# Altium footprint library conector coaxial UMCC.PcbLib: 1 footprints
Each footprint in its own frame and in the unit in brackets; x right, y up, seen from the top. Pads: shape width x height; smd on the part's side, far side on the other; paste and mask are expansions set on the pad; w line width, h text height; cw(c..) or ccw(c..) is an arc to the next point about the centre after c.
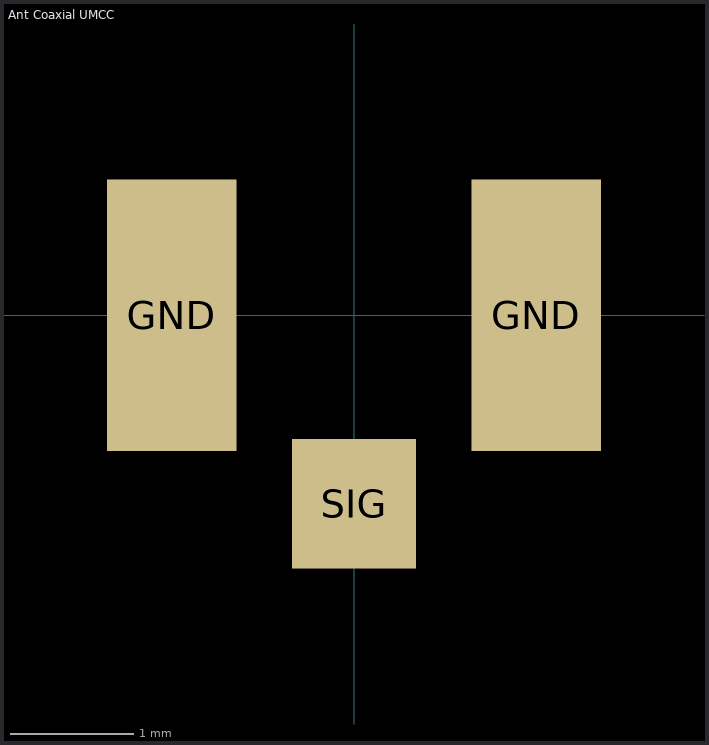
[diagram p0: the footprint, top view; thin cyan lines are the x and y axes]

## Ant Coaxial UMCC [mm]
pads (3):
  rect 1.05x2.2 smd: GND(-1.475,0) GND(1.475,0)
  rect 1x1.05 smd: SIG(0,-1.525)
3D body "conector antena coaxial UMCC.STEP": height 1.25, standoff 0, extent -1.7,-1.55 1.7,1.55